# Altium footprint library 电阻式.PcbLib: 8 footprints
Each footprint in its own frame and in the unit in brackets; x right, y up, seen from the top. Pads: shape width x height; smd on the part's side, far side on the other; paste and mask are expansions set on the pad; w line width, h text height; cw(c..) or ccw(c..) is an arc to the next point about the centre after c.
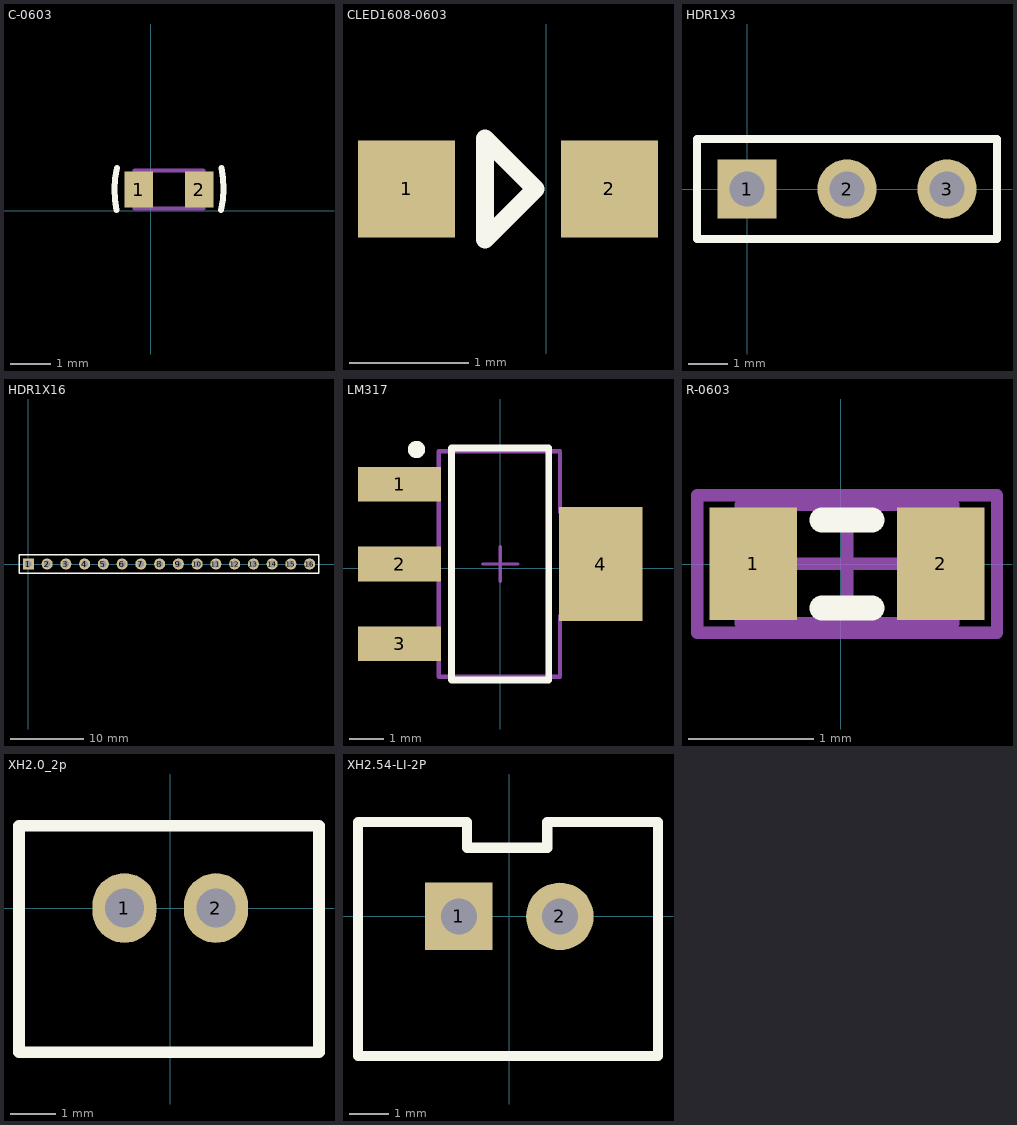
[diagram p0: the footprints below, top view; thin cyan lines are the x and y axes]

## C-0603 [mm]
pads (2):
  rect 0.7x0.9 smd: 1(-0.293,0.533) 2(1.207,0.533)
Top Overlay:
  lines w0.15: 1.753,0.025 ccw(c-0.727,0.577) 1.765,1.07 ; -0.85,0.022 cw(c1.641,0.516) -0.838,1.067 ccw(c1.641,0.516) -0.85,0.022
Mechanical 13:
  lines w0.1: -0.393,0.058 -0.393,1.008 1.307,1.008 1.307,0.058 -0.393,0.058
3D body "User Library-CapCeramic_Kemet_0603_1608.STEP": height 0.8, standoff 0, extent -0.317,0.134 1.283,0.934

## CLED1608-0603 [mil]
pads (2):
  rect 32x32 smd: 1(-46,82) 2(20.93,82)
Top Overlay:
  lines w6: -20.09,65.39 -20.09,81.96 -20.09,98.54 -3.52,81.96 -20.09,65.39
3D body "LED0603.STEP": height 23.62, standoff 0, extent -46.49,66.51 16.5,98

## HDR1X3 [mm] "Connector; Header; 3 Position"
pads (3):
  rect 1.5x1.5 hole 0.9: 1(0,0)
  round 1.5 hole 0.9: 2(2.54,0) 3(5.08,0)
Top Overlay:
  lines w0.2: -1.27,-1.27 -1.27,1.27 6.35,1.27 6.35,-1.27 -1.27,-1.27

## HDR1X16 [mm] "Connector; Header; 16 Position"
pads (16):
  rect 1.5x1.5 hole 0.9: 1(0,0)
  round 1.5 hole 0.9: 2(2.54,0) 3(5.08,0) 4(7.62,0) 5(10.16,0) 6(12.7,0) 7(15.24,0) 8(17.78,0) 9(20.32,0) 10(22.86,0) 11(25.4,0) 12(27.94,0) 13(30.48,0) 14(33.02,0) 15(35.56,0) 16(38.1,0)
Top Overlay:
  lines w0.2: -1.27,-1.27 -1.27,1.27 0.635,1.27 39.37,1.27 39.37,-1.27 -1.27,-1.27

## LM317 [mm] "LM317, SOT23"
pads (4):
  rect 2.4x1 smd paste-0.102 mask+0.051: 1(-2.9,2.427) 2(-2.9,0.127) 3(-2.9,-2.173)
  rect 2.4x3.3 smd paste-0.102 mask+0.051: 4(2.9,0.127)
Top Overlay:
  circle w0.25: c-2.413,3.429 r0.125
  lines w0.2: -1.4,-3.223 -1.4,3.477 1.4,3.477 1.4,-3.223 -1.4,-3.223
Mechanical 13:
  lines w0.127: -3.525,-2.523 -3.525,-1.823 -2.797,-1.823 -2.612,-1.823 -2.374,-1.823 -2.003,-1.823 -1.775,-1.823 -1.775,-0.223 -2.003,-0.223 -2.374,-0.223 -2.612,-0.223 -2.797,-0.223 -3.525,-0.223 -3.525,0.477 -2.797,0.477 -2.612,0.477 -2.374,0.477 -2.003,0.477 -1.775,0.477 -1.775,2.077 -2.003,2.077 -2.374,2.077 -2.612,2.077 -2.797,2.077 -3.525,2.077 -3.525,2.777 -2.797,2.777 -2.612,2.777 -2.374,2.777 -2.003,2.777 -1.775,2.777 -1.775,3.377 1.725,3.377 1.725,1.627 1.953,1.627 2.324,1.627 2.562,1.627 2.747,1.627 3.475,1.627 3.475,-1.373 2.747,-1.373 2.562,-1.373 2.324,-1.373 1.953,-1.373 1.725,-1.373 1.725,-3.123 -1.775,-3.123 -1.775,-2.523 -2.003,-2.523 -2.374,-2.523 -2.612,-2.523 -2.797,-2.523 -3.525,-2.523
Mechanical 15:
  lines w0.1: -0.5,0.127 0.5,0.127 ; 0,-0.373 0,0.627
3D body "LM317.stp": height 1.68, standoff 0, extent -3.5,-3.123 3.5,3.377

## R-0603 [mm]
pads (2):
  rect 0.7x0.9 smd: 1(-0.699,0) 2(0.801,0)
Top Overlay:
  lines w0.2: -0.149,-0.35 0.251,-0.35 ; -0.149,0.35 0.251,0.35
Mechanical 13:
  lines w0.1: -0.799,-0.475 0.901,-0.475 0.901,0.475 -0.799,0.475 -0.799,-0.475
Mechanical 15:
  lines w0.1: -0.424,0 0.526,0 ; 0.051,-0.475 0.051,0.475 ; -1.149,-0.55 1.251,-0.55 1.251,0.55 -1.149,0.55 -1.149,-0.55
3D body "0603.STEP": height 0.56, standoff 0, extent -0.799,-0.4 0.901,0.4

## XH2.0_2p [mm]
pads (2):
  oval 1.4x1.524 hole 0.85: 1(-1,0) 2(1,0)
Top Overlay:
  lines w0.254: -3.302,1.8 -3.302,-3.15 3.25,-3.15 3.25,1.8 -3.25,1.8

## XH2.54-LI-2P [mm] "接插件，2P"
pads (2):
  rect 1.7x1.7 hole 0.9: 1(-1.27,0)
  round 1.7 hole 0.9: 2(1.27,0)
Top Overlay:
  lines w0.254: -3.807,-3.505 -3.807,2.37 -1.067,2.37 -1.067,1.727 0.953,1.727 0.953,2.37 2.954,2.37 3.736,2.37 3.736,-3.505 -3.807,-3.505
3D body "XH2.54-2P.STEP": height 7.05, standoff -2.45, extent -3.77,-3.3 3.77,2.4